# EAGLE library part PICKIT (library act-global-nolan)
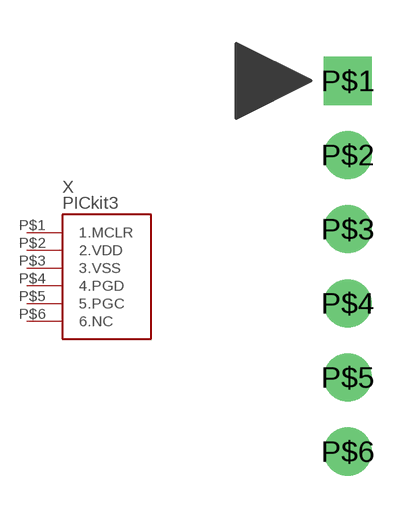
[diagram p26: symbol with the pads of PINS_6; footprint PINS_6]

Designator prefix X

## PICKIT  [PINS_6]
P$1  1.MCLR
P$2  2.VDD
P$3  3.VSS
P$4  4.PGD
P$5  5.PGC
P$6  6.NC

## Footprint PINS_6 (pad centres in mm)
drill 1.1 square: P$1 0,0
drill 1.1: P$2 0,-2.54; P$3 0,-5.08; P$4 0,-7.62; P$5 0,-10.16; P$6 0,-12.7